# Altium integrated library CONN_PLS.IntLib: 10 symbols
Pins are listed as number, name and electrical type; pins without a type are passive.

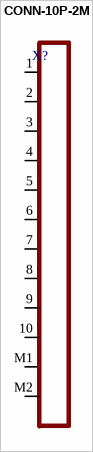
[diagram p0: symbol CONN-10P-2M]

## CONN-10P-2M
designator X?
pins: 1, 2, 3, 4, 5, 6, 7, 8, 9, 10, M1, M2


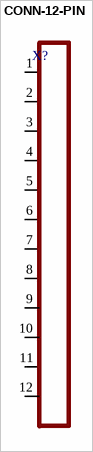
[diagram p1: symbol CONN-12-PIN]

## CONN-12-PIN
designator X?
pins: 1, 2, 3, 4, 5, 6, 7, 8, 9, 10, 11, 12


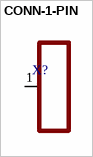
[diagram p2: symbol CONN-1-PIN]

## CONN-1-PIN
designator X?
pins: 1


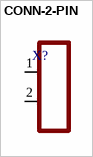
[diagram p3: symbol CONN-2-PIN]

## CONN-2-PIN
designator X?
footprint CONN-PLS-2-2.54mm
footprint Model Name (Footprint not found)
pins: 1, 2


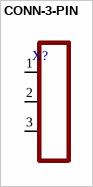
[diagram p4: symbol CONN-3-PIN]

## CONN-3-PIN
designator X?
footprint CONN-PLS-3-2.54mm
pins: 1, 2, 3


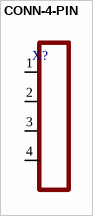
[diagram p5: symbol CONN-4-PIN]

## CONN-4-PIN
designator X?
footprint CONN-PLS-4-2.00mm
footprint CONN-PLS-4-2.54mm
pins: 1, 2, 3, 4


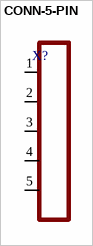
[diagram p6: symbol CONN-5-PIN]

## CONN-5-PIN
designator X?
footprint CONN-PLS-5-2.00mm
footprint CONN-PLS-5-2.54mm
pins: 1, 2, 3, 4, 5


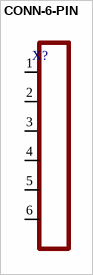
[diagram p7: symbol CONN-6-PIN]

## CONN-6-PIN
designator X?
footprint CONN-PLS-6-2.00mm
footprint CONN-PLS-6-2.54mm
pins: 1, 2, 3, 4, 5, 6


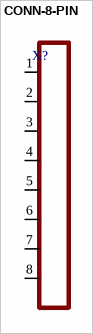
[diagram p8: symbol CONN-8-PIN]

## CONN-8-PIN
designator X?
footprint CONN-PLS-8-2.00mm
footprint CONN-PLS-8-2.00mm
pins: 1, 2, 3, 4, 5, 6, 7, 8


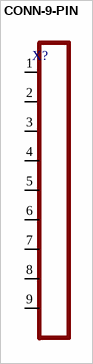
[diagram p9: symbol CONN-9-PIN]

## CONN-9-PIN
designator X?
pins: 1, 2, 3, 4, 5, 6, 7, 8, 9